# EAGLE library part TPS5432DDAR (library Birdhouse)
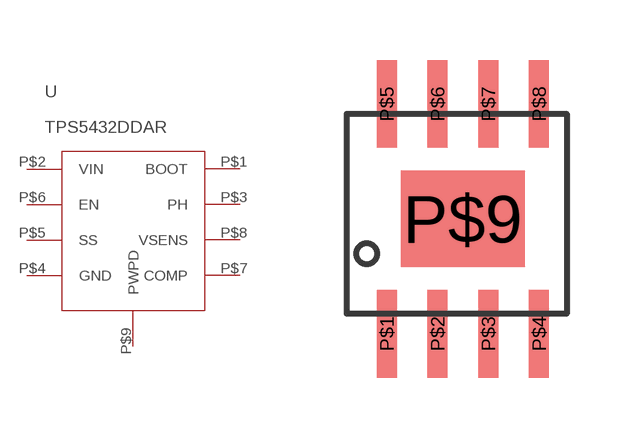
[diagram p3: symbol with the pads of TPS5432DDAR; footprint TPS5432DDAR]

Designator prefix U

## TPS5432DDAR  [TPS5432DDAR]
P$1  BOOT
P$2  VIN
P$3  PH
P$4  GND
P$5  SS
P$6  EN
P$7  COMP
P$8  VSENS
P$9  PWPD

## Footprint TPS5432DDAR (pad centres in mm)
smd 0.5 x 2.2: P$1 0,0; P$2 1.27,0; P$3 2.54,0; P$4 3.81,0; P$5 0,5.75; P$6 1.27,5.75; P$7 2.54,5.75; P$8 3.81,5.75
smd 3.1 x 2.4: P$9 1.905,2.875